# Altium footprint library CAPC1220X95L30L.PcbLib: 1 footprints
Each footprint in its own frame and in the unit in brackets; x right, y up, seen from the top. Pads: shape width x height; smd on the part's side, far side on the other; paste and mask are expansions set on the pad; w line width, h text height; cw(c..) or ccw(c..) is an arc to the next point about the centre after c.
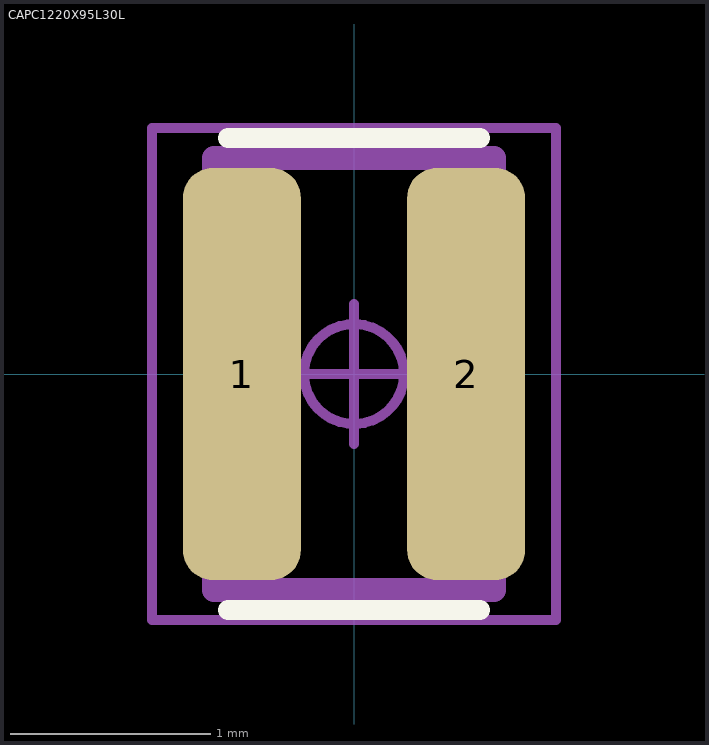
[diagram p0: the footprint, top view; thin cyan lines are the x and y axes]

## CAPC1220X95L30L [mm] "Capacitor, Chip; 1.25 mm L X 2.00 mm W X 0.95 mm H body"
height 0.95
pads (2):
  rrect51% 0.59x2.06 smd: 1(-0.56,0) 2(0.56,0)
Top Overlay:
  lines w0.1: -0.63,-1.18 0.63,-1.18 ; -0.63,1.18 0.63,1.18
Fab - Detail1, HDI1:
  lines w0.12: -0.7,-1.08 0.7,-1.08 0.7,1.08 -0.7,1.08 -0.7,-1.08
Courtyards/Models - Top:
  circle w0.05: c0,0 r0.25
  lines w0.05: -0.35,0 0.35,0 ; 0,-0.35 0,0.35 ; -1.01,-1.23 1.01,-1.23 1.01,1.23 -1.01,1.23 -1.01,-1.23
3D body: height 0.6, standoff 0, extent -0.635,-1 0.635,1